# Altium schematic symbol library Schraubklemme_1x4.SchLib: 1 symbol
Pins are listed as number, name and electrical type; pins without a type are passive.

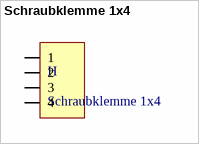
[diagram p0: symbol Schraubklemme 1x4]

## Schraubklemme 1x4
designator H
footprint CTB0502-4
pins: 1, 2, 3, 4